# Altium schematic symbol library Resistors.SchLib: 196 symbols (part 1 of 2)
Pins are listed as number, name and electrical type; pins without a type are passive.

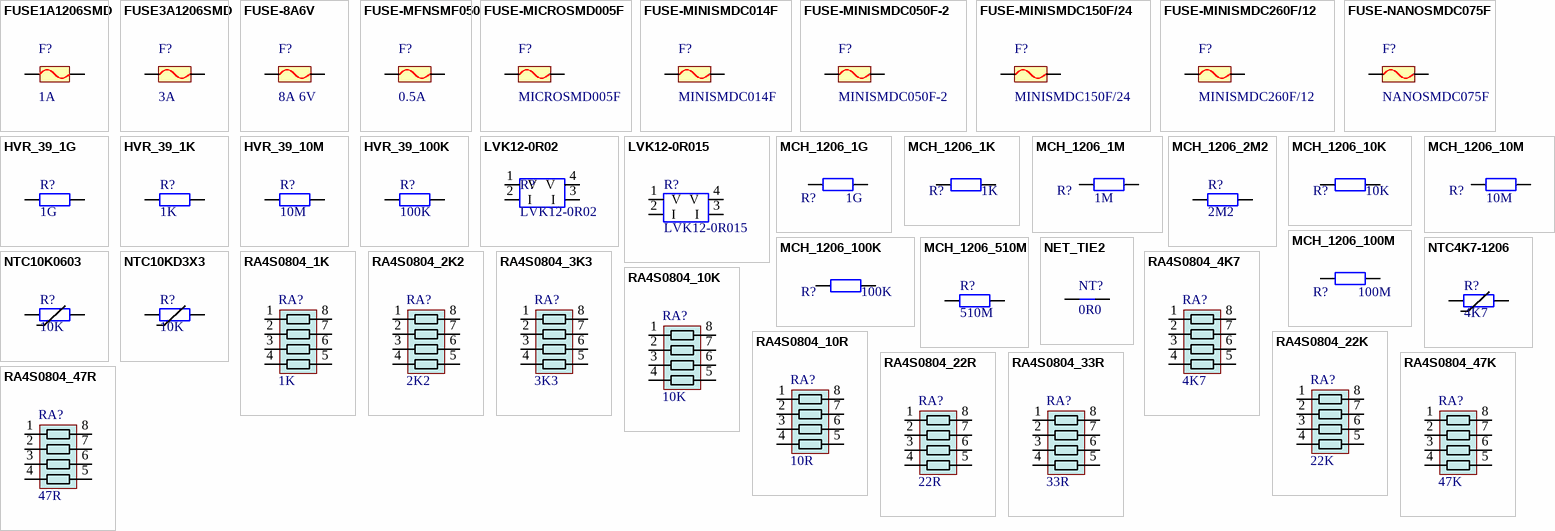
[diagram p0: symbols FUSE1A1206SMD to RA4S0804_47R]

## FUSE1A1206SMD
designator F?, comment 1A
Fuse SMD 1206; Comment2: Slow; Sort: 150; Tech: SMDR; Price: 0
simulation model RESISTOR (Resistor)
signal-integrity model Res
footprint RC1206-1 (Chip upor 1206)
pins: 1, 2

## FUSE3A1206SMD
designator F?, comment 3A
Fuse SMD 1206; Manufacturer: BOURNS, FARNELL; Manufacturer No: SF-1206S300-2, 1652164; Comment2: Slow; Sort: 150; Tech: SMDR; Price: 0
simulation model RESISTOR (Resistor)
signal-integrity model Res
footprint RC1206-1 (Chip upor 1206)
pins: 1, 2

## FUSE-8A6V
designator F?, comment 8A 6V
Fuse 8A 6V THDW; Manufacturer: Littelfuse; Manufacturer No: 1206L400SLWR; Comment2: 8A 6V 5ns; Sort: 150; Tech: SMDR; Package: Chip SMD 1206; Price: 2.16; Supplier: Digi-Key; Supplier No: F5786CT-ND
simulation model RESISTOR (Resistor)
signal-integrity model Res
footprint FUSE1206-1 (Chip Fuse, Body 3.2x1.6mm)
pins: 1, 2

## FUSE-MFNSMF050
designator F?, comment 0.5A
Fuse SMD 1206 resetable; Manufacturer: Bourns; Manufacturer No: MF-NSMF050; Sort: 150; Tech: SMDR; Comment2: Resetable; Price: 0
simulation model RESISTOR (Resistor)
signal-integrity model Res
footprint RC1206-1 (Chip upor 1206)
pins: 1, 2

## FUSE-MICROSMD005F
designator F?, comment MICROSMD005F
PolySwitch Fuse SMD 1210; Manufacturer: Tyco; Comment2: PTC 30V 0.05A; Sort: 150; Tech: SMDR; Package: Chip Fuse 3225; Manufacturer No: MICROSMD005F; Price: 0
simulation model RESISTOR (Resistor)
signal-integrity model Res
footprint FUSE3225-1 (Chip Fuse, Body 3.2x2.5mm)
pins: 1, 2

## FUSE-MINISMDC014F
designator F?, comment MINISMDC014F
PolySwitch Fuse SMD; Manufacturer: Tyco; Comment2: PTC 60V 10A; Sort: 150; Tech: SMDR; Package: Chip Fuse 4532; Manufacturer No: MINISMDC014F; Price: 0
simulation model RESISTOR (Resistor)
signal-integrity model Res
footprint FUSE4532-1 (Chip Fuse, Body 4.5x3.2mm)
pins: 1, 2

## FUSE-MINISMDC050F-2
designator F?, comment MINISMDC050F-2
PolySwitch Fuse SMD 1812; Manufacturer: Tyco, Farnell; Manufacturer No: MINISMDC050F-2, 1175839; Comment2: PTC 24V 0.5Ah 1.0At; Sort: 150; Tech: SMDR; Package: Chip Fuse 4532; Price: 0.35
simulation model RESISTOR (Resistor)
signal-integrity model Res
footprint FUSE4532-1 (Chip Fuse, Body 4.5x3.2mm)
pins: 1, 2

## FUSE-MINISMDC150F/24
designator F?, comment MINISMDC150F/24
PolySwitch Fuse SMD 1812; Manufacturer: Tyco, Farnell; Manufacturer No: MINISMDC150F/24, 1345929; Comment2: PTC 24V 1.5Ah 3.0At; Sort: 150; Tech: SMDR; Package: Chip Fuse 4532; Price: 0.3
simulation model RESISTOR (Resistor)
signal-integrity model Res
footprint FUSE4532-1 (Chip Fuse, Body 4.5x3.2mm)
pins: 1, 2

## FUSE-MINISMDC260F/12
designator F?, comment MINISMDC260F/12
PolySwitch Fuse SMD 1812; Manufacturer: Tyco, Farnell; Manufacturer No: MINISMDC260F/12, 1345934; Comment2: PTC 12V 2.6A; Sort: 150; Tech: SMDR; Package: Chip Fuse 4532; Price: 0
simulation model RESISTOR (Resistor)
signal-integrity model Res
footprint FUSE4532-1 (Chip Fuse, Body 4.5x3.2mm)
pins: 1, 2

## FUSE-NANOSMDC075F
designator F?, comment NANOSMDC075F
Fuse NANOSMD 0.75A fast; Manufacturer: Tyco-Raychem; Comment2: Resetable 0.75A; Sort: 150; Tech: SMDR; Manufacturer No: NANOSMDC075F; Price: 0
simulation model RESISTOR (Resistor)
footprint FUSE3216-1 (Chip Fuse, Body 3.2x1.6mm)
pins: 1, 2

## HVR_39_1G
designator R?, comment 1G
High Voltage Leaded Resistor 1G; Manufacturer: Ohmcraft; Manufacturer No: HVRT 39 E 1007 D; Comment2: 1G, 25ppm/C, 0.5%; Sort: 110; Tech: THDW
footprint HVR_39 (Leaded Resistor case 39)
pins: 1, 2

## HVR_39_1K
designator R?, comment 1K
High Voltage Leaded Resistor 1K; Manufacturer: Ohmcraft; Manufacturer No: HVRT 39 E 1001 D; Comment2: 1K, 25ppm/C, 0.5%; Sort: 110; Tech: THDW
footprint HVR_39 (Leaded Resistor case 39)
pins: 1, 2

## HVR_39_10M
designator R?, comment 10M
High Voltage Leaded Resistor 10M; Manufacturer: Ohmcraft; Manufacturer No: HVRT 39 E 1005 D; Comment2: 10M, 25ppm/C, 0.5%; Sort: 110; Tech: THDW
footprint HVR_39 (Leaded Resistor case 39)
pins: 1, 2

## HVR_39_100K
designator R?, comment 100K
High Voltage Leaded Resistor 100K; Manufacturer: Ohmcraft; Manufacturer No: HVRT 39 E 1003 D; Comment2: 100K, 25ppm/C, 0.5%; Sort: 110; Tech: THDW
footprint HVR_39 (Leaded Resistor case 39)
pins: 1, 2

## LVK12-0R02
designator R?
Four Terminal High Precision Current Sense Resistor; Manufacturer: Ohmite, Farnell; Manufacturer No: LVK12R020DER, 1462292; Comment2: 0.5W 0.5% 50ppm; Sort: 110; Tech: SMDR; Package: Res Chip 1206
simulation model RESISTOR (Resistor)
signal-integrity model Res
footprint RC1206-2 (Chip resistor 1206)
pins: 1 V, 2 I, 3 I, 4 V

## LVK12-0R015
designator R?
Four Terminal High Precision Current Sense Resistor; Manufacturer: Ohmite, Farnell; Manufacturer No: LVK20R015FER, 1462298; Comment2: 0.75W 1% 50ppm; Sort: 110; Tech: SMDR; Package: Res Chip 2010
simulation model RESISTOR (Resistor)
signal-integrity model Res
footprint RC2010-2 (Chip resistor 2010)
pins: 1 V, 2 I, 3 I, 4 V

## MCH_1206_1G
designator R?, comment 1G
Chip Resistor 1G; Manufacturer: Vishay, Farnell; Manufacturer No: CRHV1206AF1007FMFT, 1572807; Sort: 110; Tech: SMDR; Package: Res Chip 1206
simulation model RESISTOR (Resistor)
signal-integrity model Res
footprint RC1206-1 (Chip resistor 1206)
footprint RC1206RF1 (Chip upor 1206; smaller pads for RF)
pins: 1, 2

## MCH_1206_1K
designator R?, comment 1K
Chip Resistor 1K; Manufacturer: KOA, Farnell; Manufacturer No: RN73H2BTTD1001B25,  1400743; Sort: 110; Tech: SMDR; Package: Res Chip 1206
simulation model RESISTOR (Resistor)
signal-integrity model Res
footprint RC1206-1 (Chip resistor 1206)
footprint RC1206RF1 (Chip upor 1206; smaller pads for RF)
pins: 1, 2

## MCH_1206_1M
designator R?, comment 1M
Chip Resistor 1M; Manufacturer: KOA, Farnell; Manufacturer No: HV732BTTD1004F,  1627859; Sort: 110; Tech: SMDR; Package: Res Chip 1206
simulation model RESISTOR (Resistor)
signal-integrity model Res
footprint RC1206-1 (Chip resistor 1206)
footprint RC1206RF1 (Chip upor 1206; smaller pads for RF)
pins: 1, 2

## MCH_1206_2M2
designator R?, comment 2M2
Military Grade High Voltage Chip Resistor 2M2; Manufacturer: Ohmcraft; Manufacturer No: MCH 1206 E 2204 DT; Comment2: 2M2, 25ppm/C, 0.5%; Sort: 110; Tech: SMDR; Package: Res Chip 1206
simulation model RESISTOR (Resistor)
signal-integrity model Res
footprint RC1206-1 (Chip resistor 1206)
footprint RC1206RF1 (Chip upor 1206; smaller pads for RF)
pins: 1, 2

## MCH_1206_10K
designator R?, comment 10K
Chip Resistor 10K; Manufacturer: Vishay Draloric, Farnell; Manufacturer No: CRCW120610K0FKEA,  1469970; Sort: 110; Tech: SMDR; Package: Res Chip 1206
simulation model RESISTOR (Resistor)
signal-integrity model Res
footprint RC1206-1 (Chip resistor 1206)
footprint RC1206RF1 (Chip upor 1206; smaller pads for RF)
pins: 1, 2

## MCH_1206_10M
designator R?, comment 10M
Chip Resistor 10M; Manufacturer: Vishay, Farnell; Manufacturer No: CRHV1206-AF1005FKE1,  1109055; Sort: 110; Tech: SMDR; Package: Res Chip 1206
simulation model RESISTOR (Resistor)
signal-integrity model Res
footprint RC1206-1 (Chip resistor 1206)
footprint RC1206RF1 (Chip upor 1206; smaller pads for RF)
pins: 1, 2

## MCH_1206_100K
designator R?, comment 100K
Chip Resistor 100K; Manufacturer: KOA, Farnell; Manufacturer No: RN73H2BTTD1003B25, 1400797; Sort: 110; Tech: SMDR; Package: Res Chip 1206
simulation model RESISTOR (Resistor)
signal-integrity model Res
footprint RC1206-1 (Chip resistor 1206)
footprint RC1206RF1 (Chip upor 1206; smaller pads for RF)
pins: 1, 2

## MCH_1206_100M
designator R?, comment 100M
Chip Resistor 100M; Manufacturer: Vishay, Farnell; Manufacturer No: CRHV1206AF1006FKE1, 1109056; Sort: 110; Tech: SMDR; Package: Res Chip 1206
simulation model RESISTOR (Resistor)
signal-integrity model Res
footprint RC1206-1 (Chip resistor 1206)
footprint RC1206RF1 (Chip upor 1206; smaller pads for RF)
pins: 1, 2

## MCH_1206_510M
designator R?, comment 510M
Military Grade High Voltage Chip Resistor 510M; Manufacturer: Ohmcraft; Manufacturer No: MCH 1206 E 5106 DT; Comment2: 510M, 25ppm/C, 0.5%; Sort: 110; Tech: SMDR; Package: Res Chip 1206
simulation model RESISTOR (Resistor)
signal-integrity model Res
footprint RC1206-1 (Chip resistor 1206)
footprint RC1206RF1 (Chip upor 1206; smaller pads for RF)
pins: 1, 2

## NET_TIE2
designator NT?, comment 0R0  (net tie, no BOM)
Chip Resistor 0603; Sort: 110; Tech: SMDR
simulation model RESISTOR (Resistor)
signal-integrity model Res
footprint NETTIE (Net Tie)
pins: 1, 2

## NTC4K7-1206
designator R?, comment 4K7
NTC Resistor SMD 1206; Comment2: 0.1W 2% -40..+125degC; Sort: 120; Tech: THDM; Package: Res Chip 1206; Price: 0.5
simulation model RESISTOR (Resistor)
signal-integrity model Res
footprint NTC1206-1 (Chip resistor 1206)
pins: 1, 2

## NTC10K0603
designator R?, comment 10K
NTC Resistor SMD 0603; Manufacturer: Farnell, Epcos; Manufacturer No: 1299914, B57321V2103J60; Comment2: 0.1W 2% -40..+125degC; Sort: 120; Tech: THDM; Package: Res Chip 0603; Price: 0.5
simulation model RESISTOR (Resistor)
signal-integrity model Res
footprint NTC0603-1 (NTC resistor 0603 0.9mm high)
pins: 1, 2

## NTC10KD3X3
designator R?, comment 10K
NTC Resistor THT D3x3x8mm; Manufacturer: Farnell, Vishay; Manufacturer No: 1187036, 238164054103; Comment2: 0.1W 2% -40..+125degC; Sort: 110; Tech: THDM; Package: NTC D3x3mm; Price: 0.002
simulation model RESISTOR (Resistor)
signal-integrity model Res
footprint NTCD3 (NTC resistor THT R2.54mm 2.4x3mm h 8mm)
footprint RC0805RF1 (Chip upor 0805; smaller pads for RF)
pins: 1, 2

## RA4S0804_1K
designator RA?, comment 1K
Resistor array 4 single resistors 0.063W; Manufacturer: Vishay; Manufacturer No: CRA04S0831K0JTD; Comment2: 0.063W/R  5%; Sort: 112; Tech: SMDR; Package: Res Array 0804 8pin; Price: 0
signal-integrity model Model Name (Model Description)
footprint RA0805-4 (CRA04S Resistor array 4x Single R; 0805 8 pin R0.5mm)
pins: 1, 2, 3, 4, 5, 6, 7, 8

## RA4S0804_2K2
designator RA?, comment 2K2
Resistor array 4 single resistors 0.063W; Manufacturer: Vishay; Manufacturer No: CRA04S0832K2JTD; Comment2: 0.063W/R  5%; Sort: 112; Tech: SMDR; Package: Res Array 0804 8pin; Price: 0
signal-integrity model Model Name (Model Description)
footprint RA0805-4 (CRA04S Resistor array 4x Single R; 0805 8 pin R0.5mm)
pins: 1, 2, 3, 4, 5, 6, 7, 8

## RA4S0804_3K3
designator RA?, comment 3K3
Resistor array 4 single resistors 0.063W; Manufacturer: Vishay; Manufacturer No: CRA04S0833K3JTD; Comment2: 0.063W/R  5%; Sort: 112; Tech: SMDR; Package: Res Array 0804 8pin; Price: 0
signal-integrity model Model Name (Model Description)
footprint RA0805-4 (CRA04S Resistor array 4x Single R; 0805 8 pin R0.5mm)
pins: 1, 2, 3, 4, 5, 6, 7, 8

## RA4S0804_4K7
designator RA?, comment 4K7
Resistor array 4 single resistors 0.063W; Manufacturer: Vishay; Manufacturer No: CRA04S0834K7JTD; Comment2: 0.063W/R  5%; Sort: 112; Tech: SMDR; Package: Res Array 0804 8pin; Price: 0
signal-integrity model Model Name (Model Description)
footprint RA0805-4 (CRA04S Resistor array 4x Single R; 0805 8 pin R0.5mm)
pins: 1, 2, 3, 4, 5, 6, 7, 8

## RA4S0804_10K
designator RA?, comment 10K
Resistor array 4 single resistors 0.063W; Manufacturer: Vishay; Manufacturer No: CRA04S08310K0JTD; Comment2: 0.063W/R  5%; Sort: 112; Tech: SMDR; Package: Res Array 0804 8pin; Price: 0
signal-integrity model Model Name (Model Description)
footprint RA0805-4 (CRA04S Resistor array 4x Single R; 0805 8 pin R0.5mm)
pins: 1, 2, 3, 4, 5, 6, 7, 8

## RA4S0804_10R
designator RA?, comment 10R
Resistor array 4 single resistors 0.063W; Manufacturer: Vishay; Manufacturer No: CRA04S08310R0JTD; Comment2: 0.063W/R  5%; Sort: 112; Tech: SMDR; Package: Res Array 0804 8pin; Price: 0
signal-integrity model Model Name (Model Description)
footprint RA0805-4 (CRA04S Resistor array 4x Single R; 0805 8 pin R0.5mm)
pins: 1, 2, 3, 4, 5, 6, 7, 8

## RA4S0804_22K
designator RA?, comment 22K
Resistor array 4 single resistors 0.063W; Manufacturer: Vishay; Manufacturer No: CRA04S08322K0JTD; Comment2: 0.063W/R  5%; Sort: 112; Tech: SMDR; Package: Res Array 0804 8pin; Price: 0
signal-integrity model Model Name (Model Description)
footprint RA0805-4 (CRA04S Resistor array 4x Single R; 0805 8 pin R0.5mm)
pins: 1, 2, 3, 4, 5, 6, 7, 8

## RA4S0804_22R
designator RA?, comment 22R
Resistor array 4 single resistors 0.063W; Manufacturer: Vishay; Manufacturer No: CRA04S08322R0JTD; Comment2: 0.063W/R  5%; Sort: 112; Tech: SMDR; Package: Res Array 0804 8pin; Price: 0
signal-integrity model Model Name (Model Description)
footprint RA0805-4 (CRA04S Resistor array 4x Single R; 0805 8 pin R0.5mm)
pins: 1, 2, 3, 4, 5, 6, 7, 8

## RA4S0804_33R
designator RA?, comment 33R
Resistor array 4 single resistors 0.063W; Manufacturer: Vishay; Manufacturer No: CRA04S08333R0JTD; Comment2: 0.063W/R  5%; Sort: 112; Tech: SMDR; Package: Res Array 0804 8pin; Price: 0
signal-integrity model Model Name (Model Description)
footprint RA0805-4 (CRA04S Resistor array 4x Single R; 0805 8 pin R0.5mm)
pins: 1, 2, 3, 4, 5, 6, 7, 8

## RA4S0804_47K
designator RA?, comment 47K
Resistor array 4 single resistors 0.063W; Manufacturer: Vishay; Manufacturer No: CRA04S08347K0JTD; Comment2: 0.063W/R  5%; Sort: 112; Tech: SMDR; Package: Res Array 0804 8pin; Price: 0
signal-integrity model Model Name (Model Description)
footprint RA0805-4 (CRA04S Resistor array 4x Single R; 0805 8 pin R0.5mm)
pins: 1, 2, 3, 4, 5, 6, 7, 8

## RA4S0804_47R
designator RA?, comment 47R
Resistor array 4 single resistors 0.063W; Manufacturer: Vishay; Manufacturer No: CRA04S08347R0JTD; Comment2: 0.063W/R  5%; Sort: 112; Tech: SMDR; Package: Res Array 0804 8pin; Price: 0
signal-integrity model Model Name (Model Description)
footprint RA0805-4 (CRA04S Resistor array 4x Single R; 0805 8 pin R0.5mm)
pins: 1, 2, 3, 4, 5, 6, 7, 8

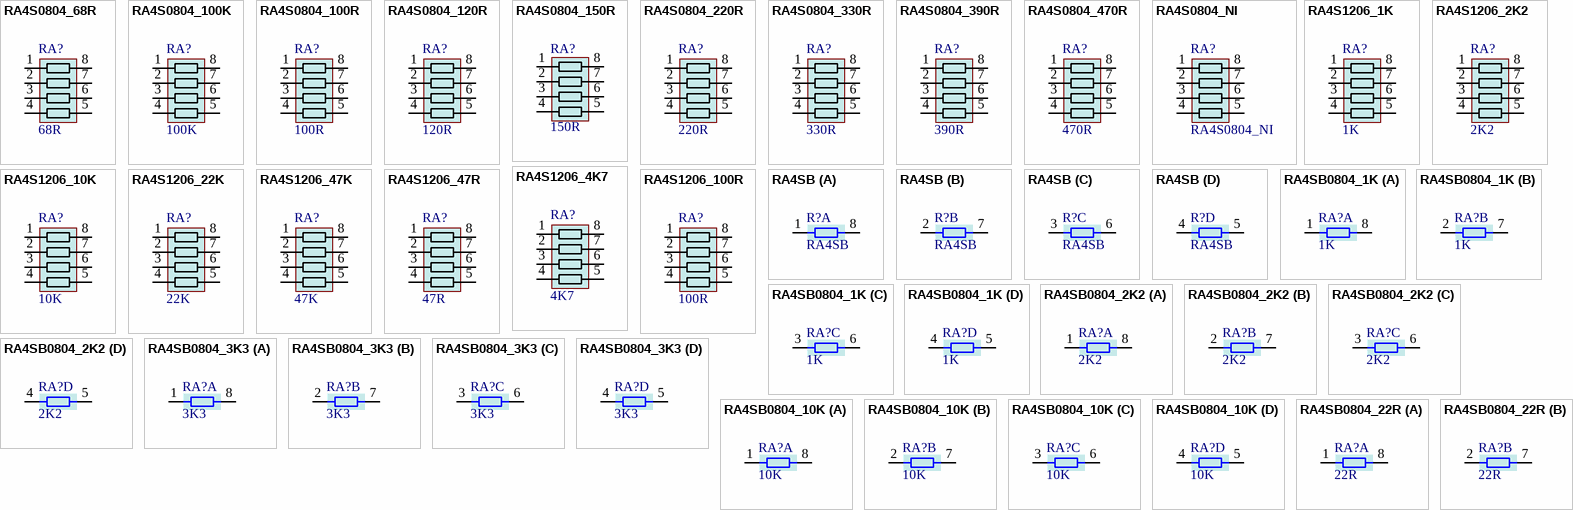
[diagram p1: symbols RA4S0804_68R to RA4SB0804_22R]

## RA4S0804_68R
designator RA?, comment 68R
Resistor array 4 single resistors 0.063W; Manufacturer: Vishay; Manufacturer No: CRA04S08368R0JTD; Comment2: 0.063W/R  5%; Sort: 112; Tech: SMDR; Package: Res Array 0804 8pin; Price: 0
signal-integrity model Model Name (Model Description)
footprint RA0805-4 (CRA04S Resistor array 4x Single R; 0805 8 pin R0.5mm)
pins: 1, 2, 3, 4, 5, 6, 7, 8

## RA4S0804_100K
designator RA?, comment 100K
Resistor array 4 single resistors 0.063W; Manufacturer: Vishay; Manufacturer No: CRA04S083100KJTD; Comment2: 0.063W/R  5%; Sort: 112; Tech: SMDR; Package: Res Array 0804 8pin; Price: 0
signal-integrity model Model Name (Model Description)
footprint RA0805-4 (CRA04S Resistor array 4x Single R; 0805 8 pin R0.5mm)
pins: 1, 2, 3, 4, 5, 6, 7, 8

## RA4S0804_100R
designator RA?, comment 100R
Resistor array 4 single resistors 0.063W; Manufacturer: Vishay; Manufacturer No: CRA04S083100RJTD; Comment2: 0.063W/R  5%; Sort: 112; Tech: SMDR; Package: Res Array 0804 8pin; Price: 0
signal-integrity model Model Name (Model Description)
footprint RA0805-4 (CRA04S Resistor array 4x Single R; 0805 8 pin R0.5mm)
pins: 1, 2, 3, 4, 5, 6, 7, 8

## RA4S0804_120R
designator RA?, comment 120R
Resistor array 4 single resistors 0.063W; Manufacturer: Vishay; Manufacturer No: CRA04S083120RJTD; Comment2: 0.063W/R  5%; Sort: 112; Tech: SMDR; Package: Res Array 0804 8pin; Price: 0
signal-integrity model Model Name (Model Description)
footprint RA0805-4 (CRA04S Resistor array 4x Single R; 0805 8 pin R0.5mm)
pins: 1, 2, 3, 4, 5, 6, 7, 8

## RA4S0804_150R
designator RA?, comment 150R
Resistor array 4 single resistors 0.063W; Manufacturer: Vishay; Manufacturer No: CRA04S083150RJTD; Comment2: 0.063W/R  5%; Sort: 112; Tech: SMDR; Package: Res Array 0804 8pin; Price: 0
signal-integrity model Model Name (Model Description)
footprint RA0805-4 (CRA04S Resistor array 4x Single R; 0805 8 pin R0.5mm)
pins: 1, 2, 3, 4, 5, 6, 7, 8

## RA4S0804_220R
designator RA?, comment 220R
Resistor array 4 single resistors 0.063W; Manufacturer: Vishay; Manufacturer No: CRA04S083220RJTD; Comment2: 0.063W/R  5%; Sort: 112; Tech: SMDR; Package: Res Array 0804 8pin; Price: 0
signal-integrity model Model Name (Model Description)
footprint RA0805-4 (CRA04S Resistor array 4x Single R; 0805 8 pin R0.5mm)
pins: 1, 2, 3, 4, 5, 6, 7, 8

## RA4S0804_330R
designator RA?, comment 330R
Resistor array 4 single resistors 0.063W; Manufacturer: Vishay; Manufacturer No: CRA04S083330RJTD; Comment2: 0.063W/R  5%; Sort: 112; Tech: SMDR; Package: Res Array 0804 8pin; Price: 0
signal-integrity model Model Name (Model Description)
footprint RA0805-4 (CRA04S Resistor array 4x Single R; 0805 8 pin R0.5mm)
pins: 1, 2, 3, 4, 5, 6, 7, 8

## RA4S0804_390R
designator RA?, comment 390R
Resistor array 4 single resistors 0.063W; Manufacturer: Vishay; Manufacturer No: CRA04S083390RJTD; Comment2: 0.063W/R  5%; Sort: 112; Tech: SMDR; Package: Res Array 0804 8pin; Price: 0
signal-integrity model Model Name (Model Description)
footprint RA0805-4 (CRA04S Resistor array 4x Single R; 0805 8 pin R0.5mm)
pins: 1, 2, 3, 4, 5, 6, 7, 8

## RA4S0804_470R
designator RA?, comment 470R
Resistor array 4 single resistors 0.063W; Manufacturer: Vishay; Manufacturer No: CRA04S083470RJTD; Comment2: 0.063W/R  5%; Sort: 112; Tech: SMDR; Package: Res Array 0804 8pin; Price: 0
signal-integrity model Model Name (Model Description)
footprint RA0805-4 (CRA04S Resistor array 4x Single R; 0805 8 pin R0.5mm)
pins: 1, 2, 3, 4, 5, 6, 7, 8

## RA4S0804_NI
designator RA?
Resistor array 4 single resistors 0.063W; Manufacturer: Vishay; Manufacturer No: CRA04S08322R0JTD; Comment2: 0.063W/R  5%; Sort: 112; Tech: SMDR; Price: 0
signal-integrity model Model Name (Model Description)
footprint RA0805-4 (CRA04S Resistor array 4x Single R; 0805 8 pin R0.5mm)
pins: 1, 2, 3, 4, 5, 6, 7, 8

## RA4S1206_1K
designator RA?, comment 1K
Resistor array 4 single resistors 0.063W; Manufacturer: Yageo; Manufacturer No: YC164-JR-071KL; Comment2: 0.063W/R  5% 200ppm; Sort: 112; Tech: SMDR; Package: RA1206; Price: 0
signal-integrity model Model Name (Model Description)
footprint RA1206-4 (CRA06P Resistor array 4x Single R; 1206 8 pin R0.8mm)
pins: 1, 2, 3, 4, 5, 6, 7, 8

## RA4S1206_2K2
designator RA?, comment 2K2
Resistor array 4 single resistors 0.063W; Manufacturer: Yageo; Manufacturer No: YC164-JR-072K2L; Comment2: 0.063W/R  5% 200ppm; Sort: 112; Tech: SMDR; Package: RA1206; Price: 0
signal-integrity model Model Name (Model Description)
footprint RA1206-4 (CRA06P Resistor array 4x Single R; 1206 8 pin R0.8mm)
pins: 1, 2, 3, 4, 5, 6, 7, 8

## RA4S1206_4K7
designator RA?, comment 4K7
Resistor array 4 single resistors 0.063W; Manufacturer: Yageo; Manufacturer No: YC164-JR-074K7L; Comment2: 0.063W/R  5% 200ppm; Sort: 112; Tech: SMDR; Package: RA1206; Price: 0
signal-integrity model Model Name (Model Description)
footprint RA1206-4 (CRA06P Resistor array 4x Single R; 1206 8 pin R0.8mm)
pins: 1, 2, 3, 4, 5, 6, 7, 8

## RA4S1206_10K
designator RA?, comment 10K
Resistor array 4 single resistors 0.063W; Manufacturer: Yageo; Manufacturer No: YC164-JR-0710KL; Comment2: 0.063W/R  5% 200ppm; Sort: 112; Tech: SMDR; Package: RA1206; Price: 0
signal-integrity model Model Name (Model Description)
footprint RA1206-4 (CRA06P Resistor array 4x Single R; 1206 8 pin R0.8mm)
pins: 1, 2, 3, 4, 5, 6, 7, 8

## RA4S1206_22K
designator RA?, comment 22K
Resistor array 4 single resistors 0.063W; Manufacturer: Yageo; Manufacturer No: YC164-JR-0722KL; Comment2: 0.063W/R  5% 200ppm; Sort: 112; Tech: SMDR; Package: RA1206; Price: 0
signal-integrity model Model Name (Model Description)
footprint RA1206-4 (CRA06P Resistor array 4x Single R; 1206 8 pin R0.8mm)
pins: 1, 2, 3, 4, 5, 6, 7, 8

## RA4S1206_47K
designator RA?, comment 47K
Resistor array 4 single resistors 0.063W; Manufacturer: Yageo; Manufacturer No: YC164-JR-0747KL; Comment2: 0.063W/R  5% 200ppm; Sort: 112; Tech: SMDR; Package: RA1206; Price: 0
signal-integrity model Model Name (Model Description)
footprint RA1206-4 (CRA06P Resistor array 4x Single R; 1206 8 pin R0.8mm)
pins: 1, 2, 3, 4, 5, 6, 7, 8

## RA4S1206_47R
designator RA?, comment 47R
Resistor array 4 single resistors 0.063W; Manufacturer: Yageo; Manufacturer No: YC164-JR-0747RL; Comment2: 0.063W/R  5% 200ppm; Sort: 112; Tech: SMDR; Package: RA1206; Price: 0
signal-integrity model Model Name (Model Description)
footprint RA1206-4 (CRA06P Resistor array 4x Single R; 1206 8 pin R0.8mm)
pins: 1, 2, 3, 4, 5, 6, 7, 8

## RA4S1206_100R
designator RA?, comment 100R
Resistor array 4 single resistors 0.063W; Manufacturer: Yageo; Manufacturer No: YC164-JR-07100RL; Comment2: 0.063W/R  5% 200ppm; Sort: 112; Tech: SMDR; Package: RA1206; Price: 0
signal-integrity model Model Name (Model Description)
footprint RA1206-4 (CRA06P Resistor array 4x Single R; 1206 8 pin R0.8mm)
pins: 1, 2, 3, 4, 5, 6, 7, 8

## RA4SB
designator R?
Isolated Resistor Network - Parts; Sort: 112; Tech: SMDR; Package: RA1206-4; Price: 0
footprint RA1206-4 (CRA06P Resistor array 4x Single R; 1206 8 pin R0.8mm)
footprint RA0805-4 (CRA04S Resistor array 4x Single R; 0805 8 pin R0.5mm)
part A pins: 1, 8
part B pins: 2, 7
part C pins: 3, 6
part D pins: 4, 5

## RA4SB0804_1K
designator RA?, comment 1K
Isolated 4 Resistor Array 0.063W; Manufacturer No: CRA04S0831K0JTD; Manufacturer: Vishay; Comment2: 0.063W/R  5%; Sort: 112; Tech: SMDR; Package: Res Array 0804 8pin; Price: 0
footprint RA0805-4 (Resistor array 4x Single R; 0805 8 pin R0.5mm)
part A pins: 1, 8
part B pins: 2, 7
part C pins: 3, 6
part D pins: 4, 5

## RA4SB0804_2K2
designator RA?, comment 2K2
Isolated 4 Resistor Array 0.063W; Manufacturer No: CRA04S0832K2JTD; Manufacturer: Vishay; Comment2: 0.063W/R  5%; Sort: 112; Tech: SMDR; Package: Res Array 0804 8pin; Price: 0
footprint RA0805-4 (Resistor array 4x Single R; 0805 8 pin R0.5mm)
part A pins: 1, 8
part B pins: 2, 7
part C pins: 3, 6
part D pins: 4, 5

## RA4SB0804_3K3
designator RA?, comment 3K3
Isolated 4 Resistor Array 0.063W; Manufacturer No: CRA04S0833K3JTD; Manufacturer: Vishay; Comment2: 0.063W/R  5%; Sort: 112; Tech: SMDR; Package: Res Array 0804 8pin; Price: 0
footprint RA0805-4 (Resistor array 4x Single R; 0805 8 pin R0.5mm)
part A pins: 1, 8
part B pins: 2, 7
part C pins: 3, 6
part D pins: 4, 5

## RA4SB0804_10K
designator RA?, comment 10K
Isolated 4 Resistor Array 0.063W; Manufacturer No: CRA04S08310KJTD; Manufacturer: Vishay; Comment2: 0.063W/R  5%; Sort: 112; Tech: SMDR; Package: Res Array 0804 8pin; Price: 0
footprint RA0805-4 (Resistor array 4x Single R; 0805 8 pin R0.5mm)
part A pins: 1, 8
part B pins: 2, 7
part C pins: 3, 6
part D pins: 4, 5

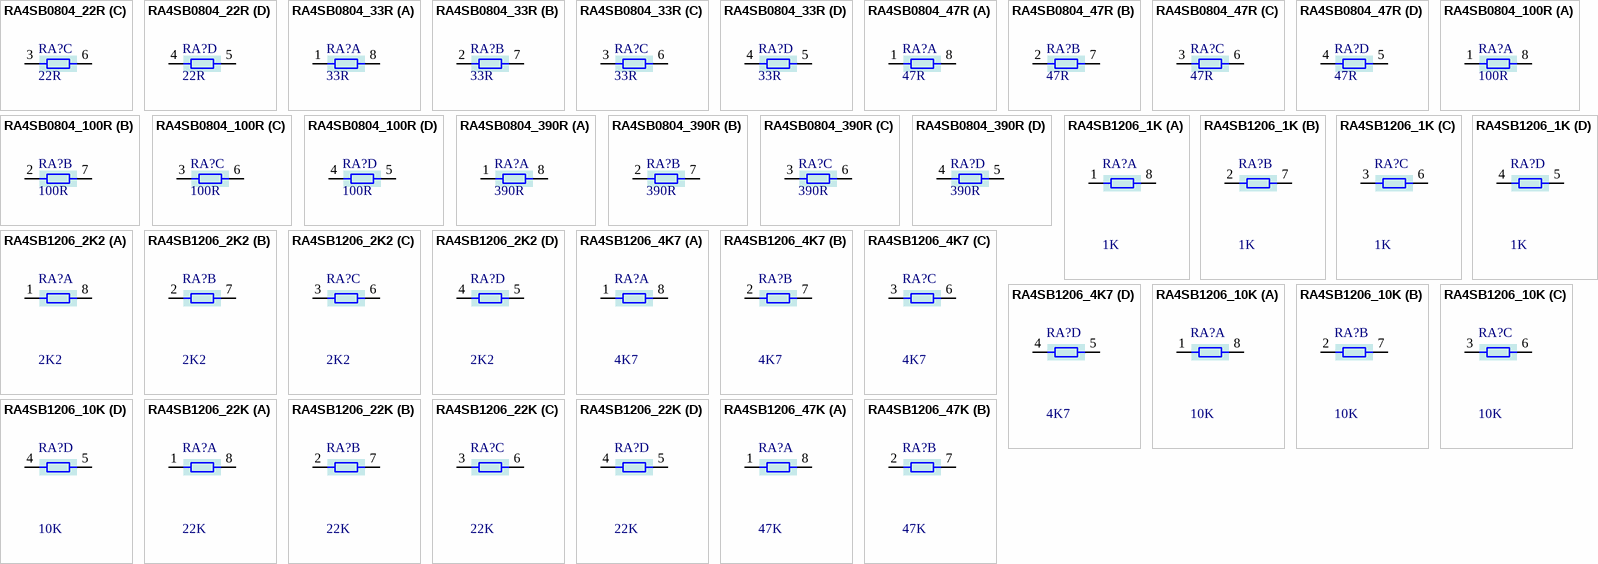
[diagram p2: symbols RA4SB0804_22R to RA4SB1206_47K]

## RA4SB0804_22R
designator RA?, comment 22R
Isolated 4 Resistor Array 0.063W; Manufacturer No: CRA04S08322RJTD; Manufacturer: Vishay; Comment2: 0.063W/R  5%; Sort: 112; Tech: SMDR; Package: Res Array 0804 8pin; Price: 0
footprint RA0805-4 (Resistor array 4x Single R; 0805 8 pin R0.5mm)
part A pins: 1, 8
part B pins: 2, 7
part C pins: 3, 6
part D pins: 4, 5

## RA4SB0804_33R
designator RA?, comment 33R
Isolated 4 Resistor Array 0.063W; Manufacturer No: CRA04S08333RJTD; Manufacturer: Vishay; Comment2: 0.063W/R  5%; Sort: 112; Tech: SMDR; Package: Res Array 0804 8pin; Price: 0
footprint RA0805-4 (Resistor array 4x Single R; 0805 8 pin R0.5mm)
part A pins: 1, 8
part B pins: 2, 7
part C pins: 3, 6
part D pins: 4, 5

## RA4SB0804_47R
designator RA?, comment 47R
Isolated 4 Resistor Array 0.063W; Manufacturer No: CRA04S08347RJTD; Manufacturer: Vishay; Comment2: 0.063W/R  5%; Sort: 112; Tech: SMDR; Package: Res Array 0804 8pin; Price: 0
footprint RA0805-4 (Resistor array 4x Single R; 0805 8 pin R0.5mm)
part A pins: 1, 8
part B pins: 2, 7
part C pins: 3, 6
part D pins: 4, 5

## RA4SB0804_100R
designator RA?, comment 100R
Isolated 4 Resistor Array 0.063W; Manufacturer No: CRA04S083100RJTD; Manufacturer: Vishay; Comment2: 0.063W/R  5%; Sort: 112; Tech: SMDR; Package: Res Array 0804 8pin; Price: 0
footprint RA0805-4 (Resistor array 4x Single R; 0805 8 pin R0.5mm)
part A pins: 1, 8
part B pins: 2, 7
part C pins: 3, 6
part D pins: 4, 5

## RA4SB0804_390R
designator RA?, comment 390R
Isolated 4 Resistor Array 0.063W; Manufacturer No: CRA04S083390RJTD; Manufacturer: Vishay; Comment2: 0.063W/R  5%; Sort: 112; Tech: SMDR; Package: Res Array 0804 8pin; Price: 0
footprint RA0805-4 (Resistor array 4x Single R; 0805 8 pin R0.5mm)
part A pins: 1, 8
part B pins: 2, 7
part C pins: 3, 6
part D pins: 4, 5

## RA4SB1206_1K
designator RA?, comment 1K
Resistor array 4 single resistors 0.063W; Manufacturer: Yageo; Manufacturer No: YC164-JR-071KL; Comment2: 0.063W/R  5% 200ppm; Sort: 112; Tech: SMDR; Package: RA1206; Price: 0
signal-integrity model Model Name (Model Description)
footprint RA1206-4 (CRA06P Resistor array 4x Single R; 1206 8 pin R0.8mm)
part A pins: 1, 8
part B pins: 2, 7
part C pins: 3, 6
part D pins: 4, 5

## RA4SB1206_2K2
designator RA?, comment 2K2
Resistor array 4 single resistors 0.063W; Manufacturer: Yageo; Manufacturer No: YC164-JR-072K2L; Comment2: 0.063W/R  5% 200ppm; Sort: 112; Tech: SMDR; Package: RA1206; Price: 0
signal-integrity model Model Name (Model Description)
footprint RA1206-4 (CRA06P Resistor array 4x Single R; 1206 8 pin R0.8mm)
part A pins: 1, 8
part B pins: 2, 7
part C pins: 3, 6
part D pins: 4, 5

## RA4SB1206_4K7
designator RA?, comment 4K7
Resistor array 4 single resistors 0.063W; Manufacturer: Yageo; Manufacturer No: YC164-JR-074K7L; Comment2: 0.063W/R  5% 200ppm; Sort: 112; Tech: SMDR; Package: RA1206; Price: 0
signal-integrity model Model Name (Model Description)
footprint RA1206-4 (CRA06P Resistor array 4x Single R; 1206 8 pin R0.8mm)
part A pins: 1, 8
part B pins: 2, 7
part C pins: 3, 6
part D pins: 4, 5

## RA4SB1206_10K
designator RA?, comment 10K
Resistor array 4 single resistors 0.063W; Manufacturer: Yageo; Manufacturer No: YC164-JR-0710KL; Comment2: 0.063W/R  5% 200ppm; Sort: 112; Tech: SMDR; Package: RA1206; Price: 0
signal-integrity model Model Name (Model Description)
footprint RA1206-4 (CRA06P Resistor array 4x Single R; 1206 8 pin R0.8mm)
part A pins: 1, 8
part B pins: 2, 7
part C pins: 3, 6
part D pins: 4, 5

## RA4SB1206_22K
designator RA?, comment 22K
Resistor array 4 single resistors 0.063W; Manufacturer: Yageo; Manufacturer No: YC164-JR-0722KL; Comment2: 0.063W/R  5% 200ppm; Sort: 112; Tech: SMDR; Package: RA1206; Price: 0
signal-integrity model Model Name (Model Description)
footprint RA1206-4 (CRA06P Resistor array 4x Single R; 1206 8 pin R0.8mm)
part A pins: 1, 8
part B pins: 2, 7
part C pins: 3, 6
part D pins: 4, 5

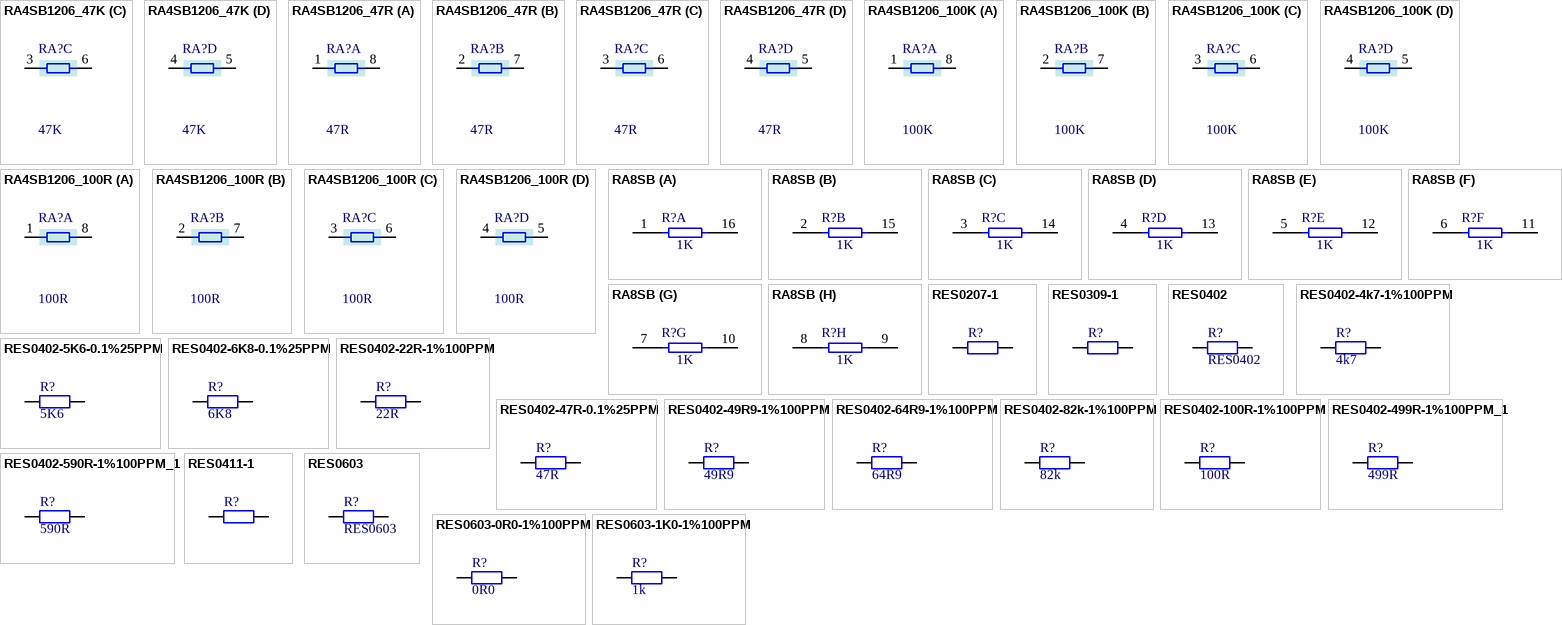
[diagram p3: symbols RA4SB1206_47K to RES0603-1K0-1%100PPM]

## RA4SB1206_47K
designator RA?, comment 47K
Resistor array 4 single resistors 0.063W; Manufacturer: Yageo; Manufacturer No: YC164-JR-0747KL; Comment2: 0.063W/R  5% 200ppm; Sort: 112; Tech: SMDR; Package: RA1206; Price: 0
signal-integrity model Model Name (Model Description)
footprint RA1206-4 (CRA06P Resistor array 4x Single R; 1206 8 pin R0.8mm)
part A pins: 1, 8
part B pins: 2, 7
part C pins: 3, 6
part D pins: 4, 5

## RA4SB1206_47R
designator RA?, comment 47R
Resistor array 4 single resistors 0.063W; Manufacturer: Yageo; Manufacturer No: YC164-JR-0747RL; Comment2: 0.063W/R  5% 200ppm; Sort: 112; Tech: SMDR; Package: RA1206; Price: 0
signal-integrity model Model Name (Model Description)
footprint RA1206-4 (CRA06P Resistor array 4x Single R; 1206 8 pin R0.8mm)
part A pins: 1, 8
part B pins: 2, 7
part C pins: 3, 6
part D pins: 4, 5

## RA4SB1206_100K
designator RA?, comment 100K
Resistor array 4 single resistors 0.063W; Manufacturer: Yageo; Manufacturer No: YC164-JR-07100KL; Comment2: 0.063W/R  5% 200ppm; Sort: 112; Tech: SMDR; Package: RA1206; Price: 0
signal-integrity model Model Name (Model Description)
footprint RA1206-4 (CRA06P Resistor array 4x Single R; 1206 8 pin R0.8mm)
part A pins: 1, 8
part B pins: 2, 7
part C pins: 3, 6
part D pins: 4, 5

## RA4SB1206_100R
designator RA?, comment 100R
Resistor array 4 single resistors 0.063W; Manufacturer: Yageo; Manufacturer No: YC164-JR-07100RL; Comment2: 0.063W/R  5% 200ppm; Sort: 112; Tech: SMDR; Package: RA1206; Price: 0
signal-integrity model Model Name (Model Description)
footprint RA1206-4 (CRA06P Resistor array 4x Single R; 1206 8 pin R0.8mm)
part A pins: 1, 8
part B pins: 2, 7
part C pins: 3, 6
part D pins: 4, 5

## RA8SB
designator R?  value 1K
Isolated Resistor Network - Parts; Sim Note: Enter the Resistance value into parameter field.; Sort: 112; Tech: SMDR; Published: 24-Mar-1999; LatestRevisionDate: 17-Jul-2002; LatestRevisionNote: Re-released for DXP Platform.; PackageReference: DIP-16; Publisher: Altium Limited; Code_JEDEC: MO-001-AC; Price: 0.002
footprint DIP-16 (DIP; 16 Leads; Row Spacing 7.62 mm; Pitch 2.54 mm)
simulation model RESISTOR (Resistor)
signal-integrity model Res Pack
part A pins: 1, 16
part B pins: 2, 15
part C pins: 3, 14
part D pins: 4, 13
part E pins: 5, 12
part F pins: 6, 11
part G pins: 7, 10
part H pins: 8, 9

## RES0207-1
designator R?
Axial Resistor 0207; Comment2: 0.25W 1% 100ppm; Sort: 120; Tech: THDW; Package: RESAX0207; Price: 0.01
simulation model RESISTOR (Resistor)
signal-integrity model Res
footprint Model Name (Footprint not found)
footprint RESAX0207-1 (Resistor axial 2x7mm R10mm)
pins: 1, 2

## RES0309-1
designator R?
Axial Resistor 0309; Comment2: 0.5W 1% 100ppm; Sort: 120; Tech: THDW; Package: RESAX0309; Price: 0.015
simulation model RESISTOR (Resistor)
signal-integrity model Res
footprint Model Name (Footprint not found)
footprint RESAX0309-1 (Resistor axial 3x9mm R13mm)
pins: 1, 2

## RES0402
designator R?
Chip Resistor 0402; Comment2: 0.03W 1% 200ppm; Sort: 110; Tech: SMDR; Package: Res Chip 0402; Price: 0.002
simulation model RESISTOR (Resistor)
signal-integrity model Res
footprint RC0402-1 (Chip resistor 0402)
footprint RC0402RF1 (Chip resistor 0402 RF pad)
pins: 1, 2

## RES0402-4k7-1%100PPM
designator R?, comment 4k7
Chip Resistor 0402; Manufacturer: Panasonic; Manufacturer No: ERJ-2RKF4701X; Comment2: 0.0625W 1% 100 ppm; Sort: 110; Tech: SMDR; Package: Res Chip 0402; Price: 0.1; Supplier: Digi-Key; Supplier No: P4.70KLCT-ND
simulation model RESISTOR (Resistor)
signal-integrity model Res
footprint RC0402-1 (Chip resistor 0402)
footprint RC0402RF1 (Chip resistor 0402 RF pad)
pins: 1, 2

## RES0402-5K6-0.1%25PPM
designator R?, comment 5K6
Chip Resistor 0402; Manufacturer: Welwyn, Farnell, Panasonic, Digi-Key; Manufacturer No: PCF0402-R-5K6-B-T1, 1108801, ERA-2AEB562X, P5.6KDCCT-ND; Comment2: 0.0625W 0.1% 25 ppm; Sort: 110; Tech: SMDR; Package: Res Chip 0402; Price: 0.002
simulation model RESISTOR (Resistor)
signal-integrity model Res
footprint RC0402-1 (Chip resistor 0402)
footprint RC0402RF1 (Chip resistor 0402 RF pad)
pins: 1, 2

## RES0402-6K8-0.1%25PPM
designator R?, comment 6K8
Chip Resistor 0402; Manufacturer: Welwyn, Farnell, Panasonic, Digi-Key; Manufacturer No: PCF0402-R-6K8-B-T1, 1108804, ERA-2AEB682X, P6.8KDCCT-ND; Comment2: 0.0625W 0.1% 25 ppm; Sort: 110; Tech: SMDR; Package: Res Chip 0402; Price: 0.002
simulation model RESISTOR (Resistor)
signal-integrity model Res
footprint RC0402-1 (Chip resistor 0402)
footprint RC0402RF1 (Chip resistor 0402 RF pad)
pins: 1, 2

## RES0402-22R-1%100PPM
designator R?, comment 22R
Chip Resistor 0402; Manufacturer: Panasonic; Manufacturer No: ERJ-2RKF22R0X; Comment2: 0.0625W 1% 100 ppm; Sort: 110; Tech: SMDR; Package: Res Chip 0402; Price: 0.1; Supplier: Digi-Key; Supplier No: P22.0LCT-ND
simulation model RESISTOR (Resistor)
signal-integrity model Res
footprint RC0402-1 (Chip resistor 0402)
footprint RC0402RF1 (Chip resistor 0402 RF pad)
pins: 1, 2

## RES0402-47R-0.1%25PPM
designator R?, comment 47R
Chip Resistor 0402; Manufacturer: Panasonic, Digi-Key; Manufacturer No: ERA-2AEB470X, P47DCCT-ND; Comment2: 0.0625W 0.1% 25 ppm; Sort: 110; Tech: SMDR; Package: Res Chip 0402; Price: 0.002
simulation model RESISTOR (Resistor)
signal-integrity model Res
footprint RC0402-1 (Chip resistor 0402)
footprint RC0402RF1 (Chip resistor 0402 RF pad)
pins: 1, 2

## RES0402-49R9-1%100PPM
designator R?, comment 49R9
Chip Resistor 0402; Manufacturer: Panasonic; Manufacturer No: ERJ-2RKF49R9X; Comment2: 0.0625W 1% 100 ppm; Sort: 110; Tech: SMDR; Package: Res Chip 0402; Price: 0.1; Supplier: Digi-Key; Supplier No: P49.9LCT-ND
simulation model RESISTOR (Resistor)
signal-integrity model Res
footprint RC0402-1 (Chip resistor 0402)
footprint RC0402RF1 (Chip resistor 0402 RF pad)
pins: 1, 2

## RES0402-64R9-1%100PPM
designator R?, comment 64R9
Chip Resistor 0402; Manufacturer: Panasonic; Manufacturer No: ERJ-2RKF64R9X; Comment2: 0.0625W 1% 100 ppm; Sort: 110; Tech: SMDR; Package: Res Chip 0402; Price: 0.1; Supplier: Digi-Key; Supplier No: P64.9LCT-ND
simulation model RESISTOR (Resistor)
signal-integrity model Res
footprint RC0402-1 (Chip resistor 0402)
footprint RC0402RF1 (Chip resistor 0402 RF pad)
pins: 1, 2

## RES0402-82k-1%100PPM
designator R?, comment 82k
Chip Resistor 0402; Manufacturer: Panasonic; Manufacturer No: ERJ-2RKF8202X; Comment2: 0.0625W 1% 100 ppm; Sort: 110; Tech: SMDR; Package: Res Chip 0402; Price: 0.1; Supplier: Digi-Key; Supplier No: P82.0KLCT-ND
simulation model RESISTOR (Resistor)
signal-integrity model Res
footprint RC0402-1 (Chip resistor 0402)
footprint RC0402RF1 (Chip resistor 0402 RF pad)
pins: 1, 2

## RES0402-100R-1%100PPM
designator R?, comment 100R
Chip Resistor 0402; Manufacturer: Panasonic; Manufacturer No: ERJ-2RKF1000X; Comment2: 0.0625W 1% 100 ppm; Sort: 110; Tech: SMDR; Package: Res Chip 0402; Price: 0.1; Supplier: Digi-Key; Supplier No: P100LCT-ND
simulation model RESISTOR (Resistor)
signal-integrity model Res
footprint RC0402-1 (Chip resistor 0402)
footprint RC0402RF1 (Chip resistor 0402 RF pad)
pins: 1, 2

## RES0402-499R-1%100PPM_1
designator R?, comment 499R
Chip Resistor 0402; Manufacturer: Panasonic; Manufacturer No: ERJ-2RKF4990X; Comment2: 0.0625W 1% 100 ppm; Sort: 110; Tech: SMDR; Package: Res Chip 0402; Price: 0.1; Supplier: Digi-Key; Supplier No: P499LCT-ND
simulation model RESISTOR (Resistor)
signal-integrity model Res
footprint RC0402-1 (Chip resistor 0402)
footprint RC0402RF1 (Chip resistor 0402 RF pad)
pins: 1, 2

## RES0402-590R-1%100PPM_1
designator R?, comment 590R
Chip Resistor 0402; Manufacturer: Panasonic; Manufacturer No: ERJ-2RKF5900X; Comment2: 0.0625W 1% 100 ppm; Sort: 110; Tech: SMDR; Package: Res Chip 0402; Price: 0.1; Supplier: Digi-Key; Supplier No: P590LCT-ND
simulation model RESISTOR (Resistor)
signal-integrity model Res
footprint RC0402-1 (Chip resistor 0402)
footprint RC0402RF1 (Chip resistor 0402 RF pad)
pins: 1, 2

## RES0411-1
designator R?
Axial Resistor 0411; Comment2: 0.5W 1% 100ppm; Sort: 120; Tech: THDR; Package: RESAX0411; Price: 0.04
simulation model RESISTOR (Resistor)
signal-integrity model Res
footprint Model Name (Footprint not found)
footprint RESAX0411-1 (Resistor axial 4x11mm R15mm)
pins: 1, 2

## RES0603
designator R?
Chip Resistor 0603; Comment2: 0.063W 1% 200ppm; Sort: 110; Tech: SMDR; Package: Res Chip 0603; Price: 0.002
simulation model RESISTOR (Resistor)
signal-integrity model Res
footprint RC0603-1 (Chip upor 0603)
footprint RC0603-2N (Chip Resistor, 2-Leads, Body 1,6x0,8mm, IPC Medium Density)
footprint RC0603RF1 (Chip resistor 0603 RF pad)
pins: 1, 2

## RES0603-0R0-1%100PPM
designator R?, comment 0R0
Chip Resistor 0603; Manufacturer: Panasonic; Manufacturer No: ERJ-3GEY0R00V; Comment2: 0.125W 0.1% 10ppm; Sort: 110; Tech: SMDR; Package: Res Chip 0603; Price: 0.1; Supplier: Digi-Key; Supplier No: P0.0GCT-ND
simulation model RESISTOR (Resistor)
signal-integrity model Res
footprint RC0603-1 (Chip upor 0603)
footprint RC0603-2N (Chip Resistor, 2-Leads, Body 1,6x0,8mm, IPC Medium Density)
footprint RC0603-2 (Chip resistor 0603 low C)
pins: 1, 2
1 alternate drawing of the same symbol

## RES0603-1K0-1%100PPM
designator R?, comment 1k
Chip Resistor 0603; Manufacturer: Panasonic; Manufacturer No: ERJ-3EKF1001V; Comment2: 0.125W 0.1% 10ppm; Sort: 110; Tech: SMDR; Package: Res Chip 0603; Price: 0.1; Supplier: Digi-Key; Supplier No: P1.00KHCT-ND
simulation model RESISTOR (Resistor)
signal-integrity model Res
footprint RC0603-1 (Chip upor 0603)
footprint RC0603-2N (Chip Resistor, 2-Leads, Body 1,6x0,8mm, IPC Medium Density)
footprint RC0603-2 (Chip resistor 0603 low C)
pins: 1, 2

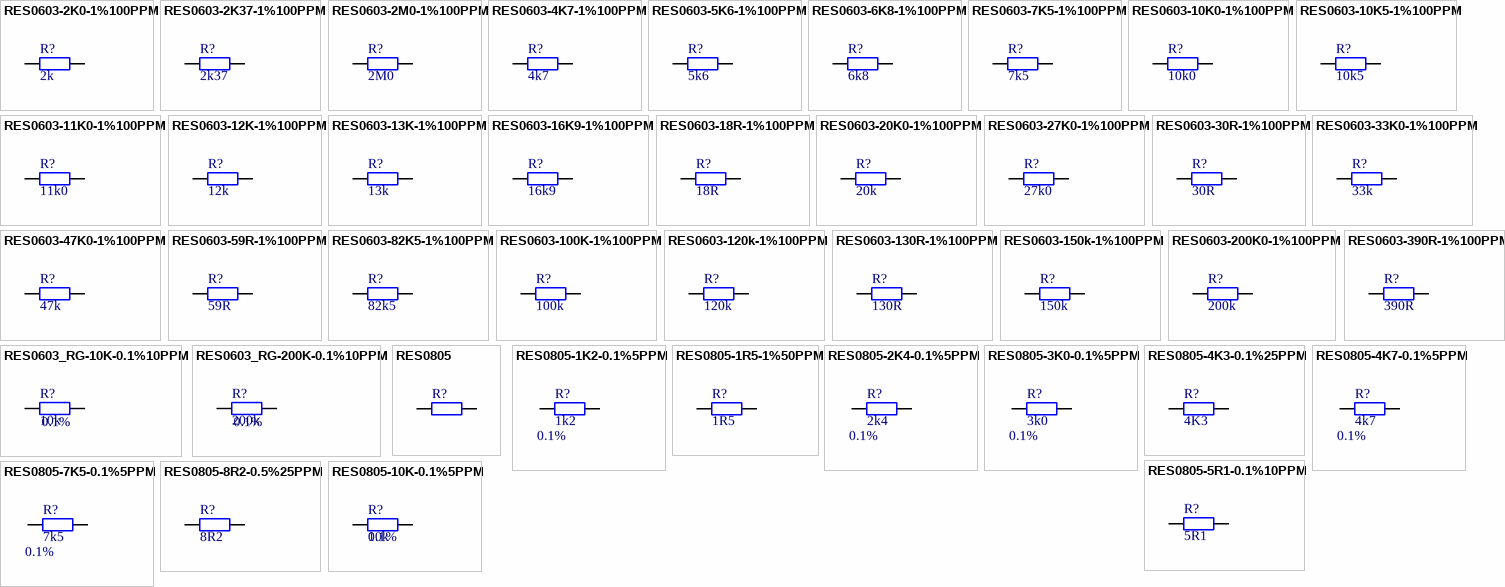
[diagram p4: symbols RES0603-2K0-1%100PPM to RES0805-10K-0.1%5PPM]

## RES0603-2K0-1%100PPM
designator R?, comment 2k
Chip Resistor 0603; Manufacturer: Panasonic; Manufacturer No: ERJ-3EKF2001V; Comment2: 0.125W 0.1% 10ppm; Sort: 110; Tech: SMDR; Package: Res Chip 0603; Price: 0.1; Supplier: Digi-Key; Supplier No: P2.00KHCT-ND
simulation model RESISTOR (Resistor)
signal-integrity model Res
footprint RC0603-1 (Chip upor 0603)
footprint RC0603-2N (Chip Resistor, 2-Leads, Body 1,6x0,8mm, IPC Medium Density)
footprint RC0603-2 (Chip resistor 0603 low C)
pins: 1, 2

## RES0603-2K37-1%100PPM
designator R?, comment 2k37
Chip Resistor 0603; Manufacturer: Panasonic; Manufacturer No: ERJ-3EKF2371V; Comment2: 0.125W 0.1% 10ppm; Sort: 110; Tech: SMDR; Package: Res Chip 0603; Price: 0.1; Supplier: Digi-Key; Supplier No: P2.37KHCT-ND
simulation model RESISTOR (Resistor)
signal-integrity model Res
footprint RC0603-1 (Chip upor 0603)
footprint RC0603-2N (Chip Resistor, 2-Leads, Body 1,6x0,8mm, IPC Medium Density)
footprint RC0603-2 (Chip resistor 0603 low C)
pins: 1, 2

## RES0603-2M0-1%100PPM
designator R?, comment 2M0
Chip Resistor 0603; Manufacturer: Panasonic; Manufacturer No: ERJ-3EKF2004V; Comment2: 0.125W 0.1% 100ppm; Sort: 110; Tech: SMDR; Package: Res Chip 0603; Price: 0.1; Supplier: Digi-Key; Supplier No: P2.00MHCT-ND
simulation model RESISTOR (Resistor)
signal-integrity model Res
footprint RC0603-1 (Chip upor 0603)
footprint RC0603-2N (Chip Resistor, 2-Leads, Body 1,6x0,8mm, IPC Medium Density)
footprint RC0603-2 (Chip resistor 0603 low C)
pins: 1, 2

## RES0603-4K7-1%100PPM
designator R?, comment 4k7
Chip Resistor 0603; Manufacturer: Panasonic; Manufacturer No: ERJ-3EKF4701V; Comment2: 0.125W 0.1% 10ppm; Sort: 110; Tech: SMDR; Package: Res Chip 0603; Price: 0.1; Supplier: Digi-Key; Supplier No: P4.70KHCT-ND
simulation model RESISTOR (Resistor)
signal-integrity model Res
footprint RC0603-1 (Chip upor 0603)
footprint RC0603-2N (Chip Resistor, 2-Leads, Body 1,6x0,8mm, IPC Medium Density)
footprint RC0603-2 (Chip resistor 0603 low C)
pins: 1, 2

## RES0603-5K6-1%100PPM
designator R?, comment 5k6
Chip Resistor 0603; Manufacturer: Vishay B.; Manufacturer No: MCT06030C5601FP500; Comment2: 0.125W 0.1% 100ppm; Sort: 110; Tech: SMDR; Package: Res Chip 0603; Price: 0.08; Supplier: Digi-Key; Supplier No: MCT0603-5.60K-CFCT-ND
simulation model RESISTOR (Resistor)
signal-integrity model Res
footprint RC0603-1 (Chip upor 0603)
footprint RC0603-2N (Chip Resistor, 2-Leads, Body 1,6x0,8mm, IPC Medium Density)
footprint RC0603-2 (Chip resistor 0603 low C)
pins: 1, 2

## RES0603-6K8-1%100PPM
designator R?, comment 6k8
Chip Resistor 0603; Manufacturer: Panasonic; Manufacturer No: ERJ-3EKF6801V; Comment2: 0.125W 0.1% 100ppm; Sort: 110; Tech: SMDR; Package: Res Chip 0603; Price: 0.1; Supplier: Digi-Key; Supplier No: P6.80KHCT-ND
simulation model RESISTOR (Resistor)
signal-integrity model Res
footprint RC0603-1 (Chip upor 0603)
footprint RC0603-2N (Chip Resistor, 2-Leads, Body 1,6x0,8mm, IPC Medium Density)
footprint RC0603-2 (Chip resistor 0603 low C)
pins: 1, 2

## RES0603-7K5-1%100PPM
designator R?, comment 7k5
Chip Resistor 0603; Manufacturer: Panasonic; Manufacturer No: ERJ-3EKF7501V; Comment2: 0.125W 0.1% 10ppm; Sort: 110; Tech: SMDR; Package: Res Chip 0603; Price: 0.1; Supplier: Digi-Key; Supplier No: P7.50KHCT-ND
simulation model RESISTOR (Resistor)
signal-integrity model Res
footprint RC0603-1 (Chip upor 0603)
footprint RC0603-2N (Chip Resistor, 2-Leads, Body 1,6x0,8mm, IPC Medium Density)
footprint RC0603-2 (Chip resistor 0603 low C)
pins: 1, 2

## RES0603-10K0-1%100PPM
designator R?, comment 10k0
Chip Resistor 0603; Manufacturer: Panasonic; Manufacturer No: ERJ-3EKF1002V; Comment2: 0.125W 0.1% 100ppm; Sort: 110; Tech: SMDR; Package: Res Chip 0603; Price: 0.1; Supplier: Digi-Key; Supplier No: P10.0KHCT-ND
simulation model RESISTOR (Resistor)
signal-integrity model Res
footprint RC0603-1 (Chip upor 0603)
footprint RC0603-2N (Chip Resistor, 2-Leads, Body 1,6x0,8mm, IPC Medium Density)
footprint RC0603-2 (Chip resistor 0603 low C)
pins: 1, 2

## RES0603-10K5-1%100PPM
designator R?, comment 10k5
Chip Resistor 0603; Manufacturer: Panasonic; Manufacturer No: ERJ-3EKF1052V; Comment2: 0.125W 0.1% 100ppm; Sort: 110; Tech: SMDR; Package: Res Chip 0603; Price: 0.1; Supplier: Digi-Key; Supplier No: P10.5KHCT-ND
simulation model RESISTOR (Resistor)
signal-integrity model Res
footprint RC0603-1 (Chip upor 0603)
footprint RC0603-2N (Chip Resistor, 2-Leads, Body 1,6x0,8mm, IPC Medium Density)
footprint RC0603-2 (Chip resistor 0603 low C)
pins: 1, 2

## RES0603-11K0-1%100PPM
designator R?, comment 11k0
Chip Resistor 0603; Manufacturer: Panasonic; Manufacturer No: ERJ-3EKF1102V; Comment2: 0.125W 0.1% 100ppm; Sort: 110; Tech: SMDR; Package: Res Chip 0603; Price: 0.1; Supplier: Digi-Key; Supplier No: P11.0KHCT-ND
simulation model RESISTOR (Resistor)
signal-integrity model Res
footprint RC0603-1 (Chip upor 0603)
footprint RC0603-2N (Chip Resistor, 2-Leads, Body 1,6x0,8mm, IPC Medium Density)
footprint RC0603-2 (Chip resistor 0603 low C)
pins: 1, 2

## RES0603-12K-1%100PPM
designator R?, comment 12k
Chip Resistor 0603; Manufacturer: Panasonic; Manufacturer No: ERJ-3EKF1202V; Comment2: 0.1W 1% 100ppm; Sort: 112; Tech: SMDR; Package: Res Chip 0603; Price: 0.1; Supplier: Digi-Key; Supplier No: P12.0KHCT-ND
simulation model RESISTOR (Resistor)
signal-integrity model Res
footprint RC0603-1 (Chip resistor 0603)
footprint RC0805RF1 (Chip upor 0805; smaller pads for RF)
pins: 1, 2

## RES0603-13K-1%100PPM
designator R?, comment 13k
Chip Resistor 0603; Manufacturer: Panasonic; Manufacturer No: ERJ-3EKF1302V; Comment2: 0.125W 0.1% 10ppm; Sort: 110; Tech: SMDR; Package: Res Chip 0603; Price: 0.1; Supplier: Digi-Key; Supplier No: P13.0KHCT-ND
simulation model RESISTOR (Resistor)
signal-integrity model Res
footprint RC0603-1 (Chip upor 0603)
footprint RC0603-2N (Chip Resistor, 2-Leads, Body 1,6x0,8mm, IPC Medium Density)
footprint RC0603-2 (Chip resistor 0603 low C)
pins: 1, 2

## RES0603-16K9-1%100PPM
designator R?, comment 16k9
Chip Resistor 0603; Manufacturer: Panasonic; Manufacturer No: ERJ-3EKF1692V; Comment2: 0.125W 0.1% 100ppm; Sort: 110; Tech: SMDR; Package: Res Chip 0603; Price: 0.1; Supplier: Digi-Key; Supplier No: P16.9KHCT-ND
simulation model RESISTOR (Resistor)
signal-integrity model Res
footprint RC0603-1 (Chip upor 0603)
footprint RC0603-2N (Chip Resistor, 2-Leads, Body 1,6x0,8mm, IPC Medium Density)
footprint RC0603-2 (Chip resistor 0603 low C)
pins: 1, 2

## RES0603-18R-1%100PPM
designator R?, comment 18R
Chip Resistor 0603; Manufacturer: Panasonic; Manufacturer No: ERJ-3EKF18R0V; Comment2: 0.125W 0.1% 10ppm; Sort: 110; Tech: SMDR; Package: Res Chip 0603; Price: 0.1; Supplier: Digi-Key; Supplier No: P18.0HCT-ND
simulation model RESISTOR (Resistor)
signal-integrity model Res
footprint RC0603-1 (Chip upor 0603)
footprint RC0603-2N (Chip Resistor, 2-Leads, Body 1,6x0,8mm, IPC Medium Density)
footprint RC0603-2 (Chip resistor 0603 low C)
pins: 1, 2

## RES0603-20K0-1%100PPM
designator R?, comment 20k
Chip Resistor 0603; Manufacturer: Panasonic; Manufacturer No: ERJ-3EKF2002V; Comment2: 0.125W 0.1% 100ppm; Sort: 110; Tech: SMDR; Package: Res Chip 0603; Price: 0.1; Supplier: Digi-Key; Supplier No: P20.0KHCT-ND
simulation model RESISTOR (Resistor)
signal-integrity model Res
footprint RC0603-1 (Chip upor 0603)
footprint RC0603-2N (Chip Resistor, 2-Leads, Body 1,6x0,8mm, IPC Medium Density)
footprint RC0603-2 (Chip resistor 0603 low C)
pins: 1, 2

## RES0603-27K0-1%100PPM
designator R?, comment 27k0
Chip Resistor 0603; Manufacturer: Panasonic; Manufacturer No: ERJ-3EKF2702V; Comment2: 0.125W 0.1% 100ppm; Sort: 110; Tech: SMDR; Package: Res Chip 0603; Price: 0.1; Supplier: Digi-Key; Supplier No: P27.0KHCT-ND
simulation model RESISTOR (Resistor)
signal-integrity model Res
footprint RC0603-1 (Chip upor 0603)
footprint RC0603-2N (Chip Resistor, 2-Leads, Body 1,6x0,8mm, IPC Medium Density)
footprint RC0603-2 (Chip resistor 0603 low C)
pins: 1, 2

## RES0603-30R-1%100PPM
designator R?, comment 30R
Chip Resistor 0603; Manufacturer: Panasonic; Manufacturer No: ERJ-3EKF30R0V; Comment2: 0.125W 0.1% 10ppm; Sort: 110; Tech: SMDR; Package: Res Chip 0603; Price: 0.1; Supplier: Digi-Key; Supplier No: P30.0HCT-ND
simulation model RESISTOR (Resistor)
signal-integrity model Res
footprint RC0603-1 (Chip upor 0603)
footprint RC0603-2N (Chip Resistor, 2-Leads, Body 1,6x0,8mm, IPC Medium Density)
footprint RC0603-2 (Chip resistor 0603 low C)
pins: 1, 2

## RES0603-33K0-1%100PPM
designator R?, comment 33k
Chip Resistor 0603; Manufacturer: Panasonic; Manufacturer No: ERJ-3EKF3302V; Comment2: 0.125W 0.1% 100ppm; Sort: 110; Tech: SMDR; Package: Res Chip 0603; Price: 0.1; Supplier: Digi-Key; Supplier No: P33.0KHCT-ND
simulation model RESISTOR (Resistor)
signal-integrity model Res
footprint RC0603-1 (Chip upor 0603)
footprint RC0603-2N (Chip Resistor, 2-Leads, Body 1,6x0,8mm, IPC Medium Density)
footprint RC0603-2 (Chip resistor 0603 low C)
pins: 1, 2

## RES0603-47K0-1%100PPM
designator R?, comment 47k
Chip Resistor 0603; Manufacturer: Panasonic; Manufacturer No: ERJ-3EKF4702V; Comment2: 0.125W 0.1% 100ppm; Sort: 110; Tech: SMDR; Package: Res Chip 0603; Price: 0.1; Supplier: Digi-Key; Supplier No: P47.0KHCT-ND
simulation model RESISTOR (Resistor)
signal-integrity model Res
footprint RC0603-1 (Chip upor 0603)
footprint RC0603-2N (Chip Resistor, 2-Leads, Body 1,6x0,8mm, IPC Medium Density)
footprint RC0603-2 (Chip resistor 0603 low C)
pins: 1, 2

## RES0603-59R-1%100PPM
designator R?, comment 59R
Chip Resistor 0603; Manufacturer: Panasonic; Manufacturer No: ERJ-3EKF59R0V; Comment2: 0.125W 0.1% 10ppm; Sort: 110; Tech: SMDR; Package: Res Chip 0603; Price: 0.1; Supplier: Digi-Key; Supplier No: P59.0HCT-ND
simulation model RESISTOR (Resistor)
signal-integrity model Res
footprint RC0603-1 (Chip upor 0603)
footprint RC0603-2N (Chip Resistor, 2-Leads, Body 1,6x0,8mm, IPC Medium Density)
footprint RC0603-2 (Chip resistor 0603 low C)
pins: 1, 2

## RES0603-82K5-1%100PPM
designator R?, comment 82k5
Chip Resistor 0603; Manufacturer: Panasonic; Manufacturer No: ERJ-3EKF8252V; Comment2: 0.125W 0.1% 100ppm; Sort: 110; Tech: SMDR; Package: Res Chip 0603; Price: 0.1; Supplier: Digi-Key; Supplier No: P82.5KHCT-ND
simulation model RESISTOR (Resistor)
signal-integrity model Res
footprint RC0603-1 (Chip upor 0603)
footprint RC0603-2N (Chip Resistor, 2-Leads, Body 1,6x0,8mm, IPC Medium Density)
footprint RC0603-2 (Chip resistor 0603 low C)
pins: 1, 2

## RES0603-100K-1%100PPM
designator R?, comment 100k
Chip Resistor 0603; Manufacturer: Panasonic; Manufacturer No: ERJ-3EKF1003V; Comment2: 0.125W 0.1% 100ppm; Sort: 110; Tech: SMDR; Package: Res Chip 0603; Price: 0.1; Supplier: Digi-Key; Supplier No: P100KHCT-ND
simulation model RESISTOR (Resistor)
signal-integrity model Res
footprint RC0603-1 (Chip upor 0603)
footprint RC0603-2N (Chip Resistor, 2-Leads, Body 1,6x0,8mm, IPC Medium Density)
footprint RC0603-2 (Chip resistor 0603 low C)
pins: 1, 2

## RES0603-120k-1%100PPM
designator R?, comment 120k
Chip Resistor 0603; Manufacturer: Panasonic; Manufacturer No: ERJ-3EKF1203V; Comment2: 0.125W 0.1% 100ppm; Sort: 110; Tech: SMDR; Package: Res Chip 0603; Price: 0.1; Supplier: Digi-Key; Supplier No: P120KHCT-ND
simulation model RESISTOR (Resistor)
signal-integrity model Res
footprint RC0603-1 (Chip upor 0603)
footprint RC0603-2N (Chip Resistor, 2-Leads, Body 1,6x0,8mm, IPC Medium Density)
footprint RC0603-2 (Chip resistor 0603 low C)
pins: 1, 2

## RES0603-130R-1%100PPM
designator R?, comment 130R
Chip Resistor 0603; Manufacturer: Panasonic; Manufacturer No: ERJ-3EKF1300V; Comment2: 0.125W 0.1% 10ppm; Sort: 110; Tech: SMDR; Package: Res Chip 0603; Price: 0.1; Supplier: Digi-Key; Supplier No: P130HDKR-ND
simulation model RESISTOR (Resistor)
signal-integrity model Res
footprint RC0603-1 (Chip upor 0603)
footprint RC0603-2N (Chip Resistor, 2-Leads, Body 1,6x0,8mm, IPC Medium Density)
footprint RC0603-2 (Chip resistor 0603 low C)
pins: 1, 2

## RES0603-150k-1%100PPM
designator R?, comment 150k
Chip Resistor 0603; Manufacturer: Vishay B.; Manufacturer No: MCT06030C1503FP500; Comment2: 0.125W 0.1% 100ppm; Sort: 110; Tech: SMDR; Package: Res Chip 0603; Price: 0.08; Supplier: Digi-Key; Supplier No: MCT0603-150K-CFCT-ND
simulation model RESISTOR (Resistor)
signal-integrity model Res
footprint RC0603-1 (Chip upor 0603)
footprint RC0603-2N (Chip Resistor, 2-Leads, Body 1,6x0,8mm, IPC Medium Density)
footprint RC0603-2 (Chip resistor 0603 low C)
pins: 1, 2

## RES0603-200K0-1%100PPM
designator R?, comment 200k
Chip Resistor 0603; Manufacturer: Panasonic; Manufacturer No: ERJ-3EKF2003V; Comment2: 0.125W 0.1% 100ppm; Sort: 110; Tech: SMDR; Package: Res Chip 0603; Price: 0.1; Supplier: Digi-Key; Supplier No: P200KHCT-ND
simulation model RESISTOR (Resistor)
signal-integrity model Res
footprint RC0603-1 (Chip upor 0603)
footprint RC0603-2N (Chip Resistor, 2-Leads, Body 1,6x0,8mm, IPC Medium Density)
footprint RC0603-2 (Chip resistor 0603 low C)
pins: 1, 2

## RES0603-390R-1%100PPM
designator R?, comment 390R
Chip Resistor 0603; Manufacturer: Panasonic; Manufacturer No: ERJ-3EKF3900V; Comment2: 0.125W 0.1% 100ppm; Sort: 110; Tech: SMDR; Package: Res Chip 0603; Price: 0.1; Supplier: Digi-Key; Supplier No: P390HCT-ND
simulation model RESISTOR (Resistor)
signal-integrity model Res
footprint RC0603-1 (Chip upor 0603)
footprint RC0603-2N (Chip Resistor, 2-Leads, Body 1,6x0,8mm, IPC Medium Density)
footprint RC0603-2 (Chip resistor 0603 low C)
pins: 1, 2